# Altium integrated library Linear Technology Power Management Hot Swap Controllers.IntLib: 992 symbols (part 42 of 93)
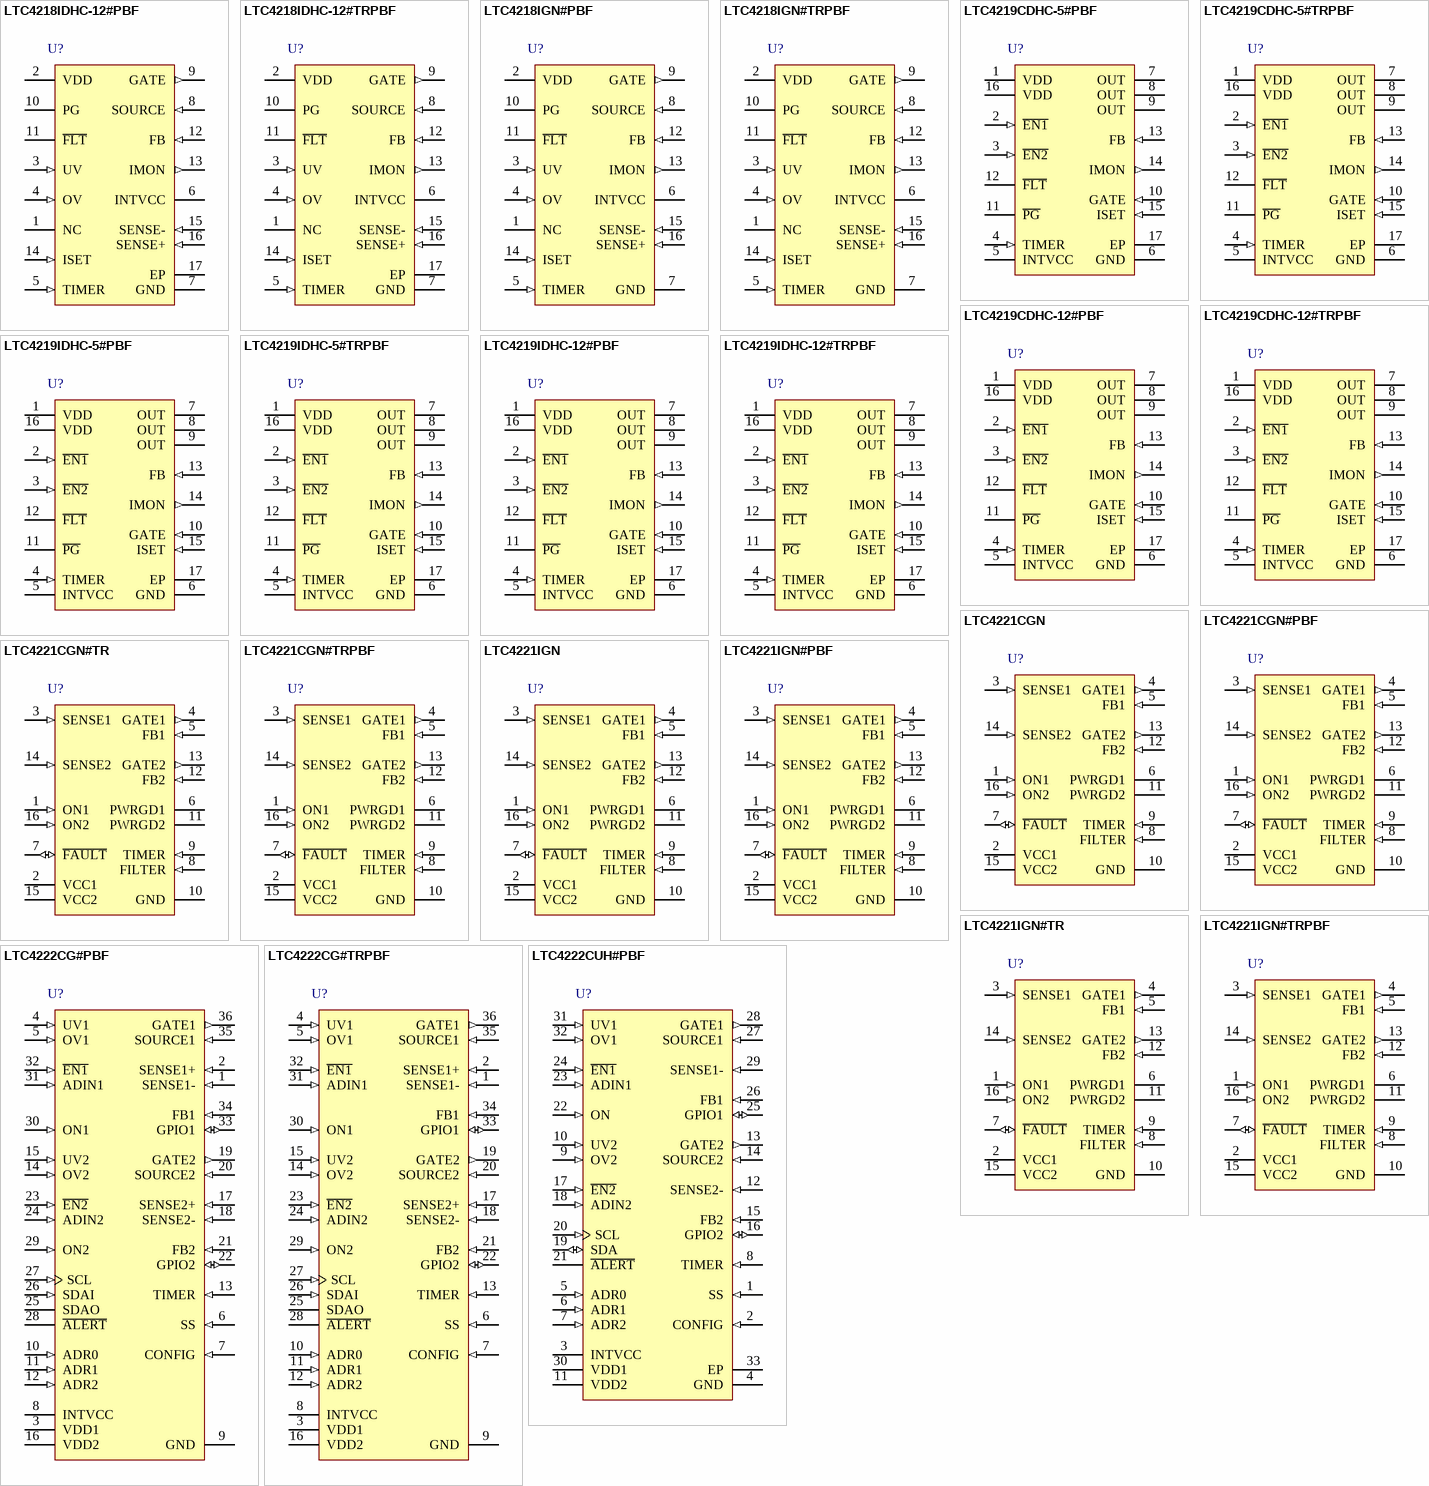
[diagram p78: symbols LTC4218IDHC-12#PBF to LTC4222CUH#PBF]

## LTC4218IDHC-12#TRPBF
designator U?
Hot Swap Controller, 2.9 to 26.5 V Vin, 16-pin SON (DHC-16), -40 to 85 degC, Pb-Free, Tape and Reel; Manufacturer: Linear Technology; PartNumber: LTC4218IDHC-12#TRPBF; Active Limiting: yes; Circuit Breaker Accuracy(%): 5; Circuit Breaker Threshold: 15 mV; Circuit Breakers(#): 1; Extended Temp: C, I; Foldback: no; DatasheetVersion: Rev. F; PackageVersion: Jun-10; PackageReference: DHC-16; PackageDescription: 16-Pin Plastic DFN, Body 5 x 3 mm, Pitch 0.5 mm; Supplier 1: Digi-Key; Supplier Part Number 1: LTC4218IDHC-12#TRPBF-ND; Fast Comparator: yes; Fault: yes; Packing: Tape and Reel; Power Good: yes; RoHS: TRUE; Vin Range: 2.9 to 26.5 V; Mounting Technology: Surface Mount; Code_JEDEC: MO-229; ComponentLink1Description: Manufacturer URL; ComponentLink1URL: http://www.linear.com/; ComponentLink2Description: Datasheet; ComponentLink2URL: http://cds.linear.com/docs/en/datasheet/4218ff.pdf; ComponentLink3Description: Package Specification; ComponentLink3URL: http://cds.linear.com/docs/en/packaging/DFN_16_05-08-1706.pdf
footprint LT-DHC-16_V (SON, 16-Leads, Body 5x3mm, Pitch 0.5mm, Thermal Pad 4.4X1.65mm)
pins: 1 NC "No Connection", 2 VDD (power) "Supply Voltage. This pin has an undervoltage lockout threshold of 2.73V.", 3 UV (in) "Undervoltage Comparator Input. Tie high if unused. Connect this pin to an external resistive divider from VDD for the LTC4218 (adjustable version). The LTC4218-12 version drives the UV pin with an internal resistive divider (See Datasheet)", 4 OV (in) "Overvoltage Comparator Input. Connect this pin to an external resistive divider from VDD for the LTC4218 (adjustable version). The LTC4218-12 version uses a fi xed internal divider with optional external adjustment for 12V (See Datasheet)", 5 TIMER (in) "Timer Input. Connect a capacitor between this pin and ground to set a 12ms/uF duration for current limit before the switch is turned off. If the UV pin is toggled low while the MOSFET switch is off, the switch will turn on (See Datasheet)", 6 INTVCC (power) "Internal 3.1V Supply Decoupling Output. This pin must have a 0.1uF or larger capacitor.", 7 GND (power) "Device Ground.", 8 SOURCE (in) "N-Channel MOSFET Source Connection. Connect this pin to the source of the external N-channel MOSFET switch. This pin provides a return for the gate pull-down circuit. In the LTC4218-12 version, the power good comparator (See Datasheet)", 9 GATE (out) "Gate Drive for External N-Channel FET. An internal 24uA current source charges the gate of the external N-channel MOSFET. A resistor and capacitor network from this pin to ground sets the turn-on rate. During an undervoltage (See Datasheet)", 10 PG (oc) "Power Good Indicator. Open drain output pulls low when the FB pin drops below 1.21V indicating the power is bad. If the FB pin rises above 1.23V and the GATE to OUT voltage exceeds 4.2V, the open-drain pull-down releases the (See Datasheet)", 11 ~{FLT} (oc) "Overcurrent Fault Indicator. Open drain output pulls low when an overcurrent fault has occurred and the circuit breaker trips. For overcurrent auto-retry tie to UV pin (see Applications Information for details).", 12 FB (in) "Foldback and Power Good Comparator Input. Connectthis pin to an external resistive divider from SOURCE for the LTC4218 (adjustable version). The LTC4218-12 version uses a fixed internal divider with optional external (See Datasheet)", 13 IMON (out) "Current Monitor Output. The current sourced from this pin is defined as the current sense voltage (between the SENSE+ and SENSE- pins) multiplied by 6.67uA/mV. Placing a 20k resistor from this pin to GND creates a 0V to 2V (See Datasheet)", 14 ISET (in) "Current Limit Adjustment Pin. For 15mV current limit threshold, open this pin. This pin is driven by a 20k resistor in series with a voltage source. The pin voltage is used to generate the current limit threshold. The (See Datasheet)", 15 SENSE- (in) "Current Sense Minus Input. Connect this pin to the opposite of VDD current sense resistor side. The current limit circuit controls the GATE pin to limit the sense voltage between the SENSE+ and SENSE- pins to 15mV or less (See Datasheet)", 16 SENSE+ (in) "Current Sense Plus Input. Connect this pin to the VDD side of the current sense resistor.", 17 EP (power) "Exposed pad may be left open or connected to device ground."

## LTC4218IGN#PBF
designator U?
Hot Swap Controller, 2.9 to 26.5 V Vin, 16-pin SOP (GN-16), -40 to 85 degC, Pb-Free; Manufacturer: Linear Technology; PartNumber: LTC4218IGN#PBF; Active Limiting: yes; Circuit Breaker Accuracy(%): 5; Circuit Breaker Threshold: 15 mV; Circuit Breakers(#): 1; Extended Temp: C, I; Foldback: no; DatasheetVersion: Rev. F; PackageVersion: Rev. B, 03/2012; PackageReference: GN-16; PackageDescription: 16-Pin Plastic SSOP, Body 4.9 x 3.9 mm, Pitch 0.635 mm; Supplier 1: Digi-Key; Supplier Part Number 1: LTC4218IGN#PBF-ND; Supplier 2: Farnell; Supplier Part Number 2: 2295338; Supplier 3: Newark; Supplier Part Number 3: 79M3605; Fast Comparator: yes; Fault: yes; Power Good: yes; RoHS: TRUE; Vin Range: 2.9 to 26.5 V; Mounting Technology: Surface Mount; ComponentLink1Description: Manufacturer URL; ComponentLink1URL: http://www.linear.com/; ComponentLink2Description: Datasheet; ComponentLink2URL: http://cds.linear.com/docs/en/datasheet/4218ff.pdf; ComponentLink3Description: Package Specification; ComponentLink3URL: http://cds.linear.com/docs/en/packaging/05081641_B_GN16.pdf
footprint LT-GN-16_N (SOP, 16-Leads, Body 5x4mm, Pitch 0.635mm, IPC Medium Density)
footprint LT-GN-16_L (SOP, 16-Leads, Body 5x4mm, Pitch 0.635mm, IPC High Density)
footprint LT-GN-16_M (SOP, 16-Leads, Body 5x4mm, Pitch 0.635mm, IPC Low Density)
pins: 1 NC "No Connection", 2 VDD (power) "Supply Voltage. This pin has an undervoltage lockout threshold of 2.73V.", 3 UV (in) "Undervoltage Comparator Input. Tie high if unused. Connect this pin to an external resistive divider from VDD for the LTC4218 (adjustable version). The LTC4218-12 version drives the UV pin with an internal resistive divider (See Datasheet)", 4 OV (in) "Overvoltage Comparator Input. Connect this pin to an external resistive divider from VDD for the LTC4218 (adjustable version). The LTC4218-12 version uses a fi xed internal divider with optional external adjustment for 12V (See Datasheet)", 5 TIMER (in) "Timer Input. Connect a capacitor between this pin and ground to set a 12ms/uF duration for current limit before the switch is turned off. If the UV pin is toggled low while the MOSFET switch is off, the switch will turn on (See Datasheet)", 6 INTVCC (power) "Internal 3.1V Supply Decoupling Output. This pin must have a 0.1uF or larger capacitor.", 7 GND (power) "Device Ground.", 8 SOURCE (in) "N-Channel MOSFET Source Connection. Connect this pin to the source of the external N-channel MOSFET switch. This pin provides a return for the gate pull-down circuit. In the LTC4218-12 version, the power good comparator (See Datasheet)", 9 GATE (out) "Gate Drive for External N-Channel FET. An internal 24uA current source charges the gate of the external N-channel MOSFET. A resistor and capacitor network from this pin to ground sets the turn-on rate. During an undervoltage (See Datasheet)", 10 PG (oc) "Power Good Indicator. Open drain output pulls low when the FB pin drops below 1.21V indicating the power is bad. If the FB pin rises above 1.23V and the GATE to OUT voltage exceeds 4.2V, the open-drain pull-down releases the (See Datasheet)", 11 ~{FLT} (oc) "Overcurrent Fault Indicator. Open drain output pulls low when an overcurrent fault has occurred and the circuit breaker trips. For overcurrent auto-retry tie to UV pin (see Applications Information for details).", 12 FB (in) "Foldback and Power Good Comparator Input. Connectthis pin to an external resistive divider from SOURCE for the LTC4218 (adjustable version). The LTC4218-12 version uses a fixed internal divider with optional external (See Datasheet)", 13 IMON (out) "Current Monitor Output. The current sourced from this pin is defined as the current sense voltage (between the SENSE+ and SENSE- pins) multiplied by 6.67uA/mV. Placing a 20k resistor from this pin to GND creates a 0V to 2V (See Datasheet)", 14 ISET (in) "Current Limit Adjustment Pin. For 15mV current limit threshold, open this pin. This pin is driven by a 20k resistor in series with a voltage source. The pin voltage is used to generate the current limit threshold. The (See Datasheet)", 15 SENSE- (in) "Current Sense Minus Input. Connect this pin to the opposite of VDD current sense resistor side. The current limit circuit controls the GATE pin to limit the sense voltage between the SENSE+ and SENSE- pins to 15mV or less (See Datasheet)", 16 SENSE+ (in) "Current Sense Plus Input. Connect this pin to the VDD side of the current sense resistor."

## LTC4218IGN#TRPBF
designator U?
Hot Swap Controller, 2.9 to 26.5 V Vin, 16-pin SOP (GN-16), -40 to 85 degC, Pb-Free, Tape and Reel; Manufacturer: Linear Technology; PartNumber: LTC4218IGN#TRPBF; Active Limiting: yes; Circuit Breaker Accuracy(%): 5; Circuit Breaker Threshold: 15 mV; Circuit Breakers(#): 1; Extended Temp: C, I; Foldback: no; DatasheetVersion: Rev. F; PackageVersion: Rev. B, 03/2012; PackageReference: GN-16; PackageDescription: 16-Pin Plastic SSOP, Body 4.9 x 3.9 mm, Pitch 0.635 mm; Supplier 1: Digi-Key; Supplier Part Number 1: LTC4218IGN#TRPBF-ND; Fast Comparator: yes; Fault: yes; Packing: Tape and Reel; Power Good: yes; RoHS: TRUE; Vin Range: 2.9 to 26.5 V; Mounting Technology: Surface Mount; ComponentLink1Description: Manufacturer URL; ComponentLink1URL: http://www.linear.com/; ComponentLink2Description: Datasheet; ComponentLink2URL: http://cds.linear.com/docs/en/datasheet/4218ff.pdf; ComponentLink3Description: Package Specification; ComponentLink3URL: http://cds.linear.com/docs/en/packaging/05081641_B_GN16.pdf
footprint LT-GN-16_N (SOP, 16-Leads, Body 5x4mm, Pitch 0.635mm, IPC Medium Density)
footprint LT-GN-16_L (SOP, 16-Leads, Body 5x4mm, Pitch 0.635mm, IPC High Density)
footprint LT-GN-16_M (SOP, 16-Leads, Body 5x4mm, Pitch 0.635mm, IPC Low Density)
pins: 1 NC "No Connection", 2 VDD (power) "Supply Voltage. This pin has an undervoltage lockout threshold of 2.73V.", 3 UV (in) "Undervoltage Comparator Input. Tie high if unused. Connect this pin to an external resistive divider from VDD for the LTC4218 (adjustable version). The LTC4218-12 version drives the UV pin with an internal resistive divider (See Datasheet)", 4 OV (in) "Overvoltage Comparator Input. Connect this pin to an external resistive divider from VDD for the LTC4218 (adjustable version). The LTC4218-12 version uses a fi xed internal divider with optional external adjustment for 12V (See Datasheet)", 5 TIMER (in) "Timer Input. Connect a capacitor between this pin and ground to set a 12ms/uF duration for current limit before the switch is turned off. If the UV pin is toggled low while the MOSFET switch is off, the switch will turn on (See Datasheet)", 6 INTVCC (power) "Internal 3.1V Supply Decoupling Output. This pin must have a 0.1uF or larger capacitor.", 7 GND (power) "Device Ground.", 8 SOURCE (in) "N-Channel MOSFET Source Connection. Connect this pin to the source of the external N-channel MOSFET switch. This pin provides a return for the gate pull-down circuit. In the LTC4218-12 version, the power good comparator (See Datasheet)", 9 GATE (out) "Gate Drive for External N-Channel FET. An internal 24uA current source charges the gate of the external N-channel MOSFET. A resistor and capacitor network from this pin to ground sets the turn-on rate. During an undervoltage (See Datasheet)", 10 PG (oc) "Power Good Indicator. Open drain output pulls low when the FB pin drops below 1.21V indicating the power is bad. If the FB pin rises above 1.23V and the GATE to OUT voltage exceeds 4.2V, the open-drain pull-down releases the (See Datasheet)", 11 ~{FLT} (oc) "Overcurrent Fault Indicator. Open drain output pulls low when an overcurrent fault has occurred and the circuit breaker trips. For overcurrent auto-retry tie to UV pin (see Applications Information for details).", 12 FB (in) "Foldback and Power Good Comparator Input. Connectthis pin to an external resistive divider from SOURCE for the LTC4218 (adjustable version). The LTC4218-12 version uses a fixed internal divider with optional external (See Datasheet)", 13 IMON (out) "Current Monitor Output. The current sourced from this pin is defined as the current sense voltage (between the SENSE+ and SENSE- pins) multiplied by 6.67uA/mV. Placing a 20k resistor from this pin to GND creates a 0V to 2V (See Datasheet)", 14 ISET (in) "Current Limit Adjustment Pin. For 15mV current limit threshold, open this pin. This pin is driven by a 20k resistor in series with a voltage source. The pin voltage is used to generate the current limit threshold. The (See Datasheet)", 15 SENSE- (in) "Current Sense Minus Input. Connect this pin to the opposite of VDD current sense resistor side. The current limit circuit controls the GATE pin to limit the sense voltage between the SENSE+ and SENSE- pins to 15mV or less (See Datasheet)", 16 SENSE+ (in) "Current Sense Plus Input. Connect this pin to the VDD side of the current sense resistor."

## LTC4219CDHC-5#PBF
designator U?
5 A Integrated Hot Swap Controller, 2.9 to 15 V Vin, 16-pin SON (DHC-16), 0 to 70 degC, Pb-Free; Manufacturer: Linear Technology; PartNumber: LTC4219CDHC-5#PBF; Active Limiting: yes; Circuit Breaker Accuracy(%): 10; Circuit Breaker Threshold: 5.6 A; Circuit Breakers(#): 1; Extended Temp: C, I; Fast Comparator: no; DatasheetVersion: Rev. B; PackageVersion: Jun-10; PackageReference: DHC-16; PackageDescription: 16-Pin Plastic DFN, Body 5 x 3 mm, Pitch 0.5 mm; Supplier 1: Digi-Key; Supplier Part Number 1: LTC4219CDHC-5#PBF-ND; Supplier 2: Newark; Supplier Part Number 2: 84R4986; Fault: yes; Foldback: yes; Power Good: yes; Reset: no; RoHS: TRUE; Vin Range: 2.9 to 15 V; Mounting Technology: Surface Mount; Code_JEDEC: MO-229; ComponentLink1Description: Manufacturer URL; ComponentLink1URL: http://www.linear.com/; ComponentLink2Description: Datasheet; ComponentLink2URL: http://cds.linear.com/docs/en/datasheet/4219fb.pdf; ComponentLink3Description: Package Specification; ComponentLink3URL: http://cds.linear.com/docs/en/packaging/DFN_16_05-08-1706.pdf
footprint LT-DHC-16_V (SON, 16-Leads, Body 5x3mm, Pitch 0.5mm, Thermal Pad 4.4X1.65mm)
pins: 1 VDD (power) "Supply Voltage and Current Sense Input. This pin has an undervoltage lockout threshold of 2.73V", 2 ~{EN1} (in) "Inverted Enable 1 Input. Ground this pin to enable the MOSFET to turn on after 100ms debounce delay.", 3 ~{EN2} (in) "Inverted Enable 2 Input. Ground this pin to enable the MOSFET to turn on after 100ms debounce delay.", 4 TIMER (in) "Timer Input. Connect a capacitor between this pin and ground to set a 12ms/uF duration for current limit before the switch is turned off.", 5 INTVCC (power) "Internal 3V Supply Decoupling Output. This pin must have a 0.1uF or larger bypass capacitor.", 6 GND (power) "Device Ground.", 7 OUT (power) "Output of Internal MOSFET Switch. Connect this pin directly to the load. An internal resistive divider is connected to this pin to drive the FB pin.", 8 OUT (power) "Output of Internal MOSFET Switch. Connect this pin directly to the load. An internal resistive divider is connected to this pin to drive the FB pin.", 9 OUT (power) "Output of Internal MOSFET Switch. Connect this pin directly to the load. An internal resistive divider is connected to this pin to drive the FB pin.", 10 GATE (in) "Gate Drive for Internal N-channel MOSFET. An internal 24uA current source charges the gate of the N-channel MOSFET", 11 ~{PG} (oc) "Power Good Indicator. Open-drain output releases the PG pin to go high when the FB pin drops below 1.21V indicating the power is bad. If the FB pin rises above 1.23V and the GATE to OUT voltage exceeds 4.2V, the open-drain (See Datasheet)", 12 ~{FLT} (oc) "Overcurrent Fault Indicator. Open-drain output pulls low when an overcurrent fault has occurred and the circuit breaker trips.", 13 FB (in) "Foldback and Power Good Input. The FB pin is driven from an internal resistive divider from OUT for both the LTC4219-12 and LTC4219-5. These versions preset 12V and 5V foldback and power good levels. If the OUT voltage falls (See Datasheet)", 14 IMON (out) "Current Monitor Output. The current in the internal MOSFET switch is divided by 50,000 and sourced from this pin. Placing a 20k resistor from this pin to GND creates a 0V to 2V voltage swing when current ranges from 0A to 5A.", 15 ISET (in) "Current Limit Adjustment Pin. For a 5.6A current limit value open this pin. This pin is driven by a 20k resistor in series with a voltage source. The pin voltage is used to generate the current limit threshold. The internal (See Datasheet)", 16 VDD (power) "Supply Voltage and Current Sense Input. This pin has an undervoltage lockout threshold of 2.73V", 17 EP "Current Sense Node and MOSFET Drain. The current limit circuit controls the GATE pin to limit the sense voltage between the VDD and SENSE pins to 42mV (5.6A) or less depending on the voltage at the FB pin. The exposed pad on (See Datasheet)"

## LTC4219CDHC-5#TRPBF
designator U?
5 A Integrated Hot Swap Controller, 2.9 to 15 V Vin, 16-pin SON (DHC-16), 0 to 70 degC, Pb-Free, Tape and Reel; Manufacturer: Linear Technology; PartNumber: LTC4219CDHC-5#TRPBF; Active Limiting: yes; Circuit Breaker Accuracy(%): 10; Circuit Breaker Threshold: 5.6 A; Circuit Breakers(#): 1; Extended Temp: C, I; Fast Comparator: no; DatasheetVersion: Rev. B; PackageVersion: Jun-10; PackageReference: DHC-16; PackageDescription: 16-Pin Plastic DFN, Body 5 x 3 mm, Pitch 0.5 mm; Supplier 1: Digi-Key; Supplier Part Number 1: LTC4219CDHC-5#TRPBF-ND; Fault: yes; Foldback: yes; Packing: Tape and Reel; Power Good: yes; Reset: no; RoHS: TRUE; Vin Range: 2.9 to 15 V; Mounting Technology: Surface Mount; Code_JEDEC: MO-229; ComponentLink1Description: Manufacturer URL; ComponentLink1URL: http://www.linear.com/; ComponentLink2Description: Datasheet; ComponentLink2URL: http://cds.linear.com/docs/en/datasheet/4219fb.pdf; ComponentLink3Description: Package Specification; ComponentLink3URL: http://cds.linear.com/docs/en/packaging/DFN_16_05-08-1706.pdf
footprint LT-DHC-16_V (SON, 16-Leads, Body 5x3mm, Pitch 0.5mm, Thermal Pad 4.4X1.65mm)
pins: 1 VDD (power) "Supply Voltage and Current Sense Input. This pin has an undervoltage lockout threshold of 2.73V", 2 ~{EN1} (in) "Inverted Enable 1 Input. Ground this pin to enable the MOSFET to turn on after 100ms debounce delay.", 3 ~{EN2} (in) "Inverted Enable 2 Input. Ground this pin to enable the MOSFET to turn on after 100ms debounce delay.", 4 TIMER (in) "Timer Input. Connect a capacitor between this pin and ground to set a 12ms/uF duration for current limit before the switch is turned off.", 5 INTVCC (power) "Internal 3V Supply Decoupling Output. This pin must have a 0.1uF or larger bypass capacitor.", 6 GND (power) "Device Ground.", 7 OUT (power) "Output of Internal MOSFET Switch. Connect this pin directly to the load. An internal resistive divider is connected to this pin to drive the FB pin.", 8 OUT (power) "Output of Internal MOSFET Switch. Connect this pin directly to the load. An internal resistive divider is connected to this pin to drive the FB pin.", 9 OUT (power) "Output of Internal MOSFET Switch. Connect this pin directly to the load. An internal resistive divider is connected to this pin to drive the FB pin.", 10 GATE (in) "Gate Drive for Internal N-channel MOSFET. An internal 24uA current source charges the gate of the N-channel MOSFET", 11 ~{PG} (oc) "Power Good Indicator. Open-drain output releases the PG pin to go high when the FB pin drops below 1.21V indicating the power is bad. If the FB pin rises above 1.23V and the GATE to OUT voltage exceeds 4.2V, the open-drain (See Datasheet)", 12 ~{FLT} (oc) "Overcurrent Fault Indicator. Open-drain output pulls low when an overcurrent fault has occurred and the circuit breaker trips.", 13 FB (in) "Foldback and Power Good Input. The FB pin is driven from an internal resistive divider from OUT for both the LTC4219-12 and LTC4219-5. These versions preset 12V and 5V foldback and power good levels. If the OUT voltage falls (See Datasheet)", 14 IMON (out) "Current Monitor Output. The current in the internal MOSFET switch is divided by 50,000 and sourced from this pin. Placing a 20k resistor from this pin to GND creates a 0V to 2V voltage swing when current ranges from 0A to 5A.", 15 ISET (in) "Current Limit Adjustment Pin. For a 5.6A current limit value open this pin. This pin is driven by a 20k resistor in series with a voltage source. The pin voltage is used to generate the current limit threshold. The internal (See Datasheet)", 16 VDD (power) "Supply Voltage and Current Sense Input. This pin has an undervoltage lockout threshold of 2.73V", 17 EP "Current Sense Node and MOSFET Drain. The current limit circuit controls the GATE pin to limit the sense voltage between the VDD and SENSE pins to 42mV (5.6A) or less depending on the voltage at the FB pin. The exposed pad on (See Datasheet)"

## LTC4219CDHC-12#PBF
designator U?
5 A Integrated Hot Swap Controller, 2.9 to 15 V Vin, 16-pin SON (DHC-16), 0 to 70 degC, Pb-Free; Manufacturer: Linear Technology; PartNumber: LTC4219CDHC-12#PBF; Active Limiting: yes; Circuit Breaker Accuracy(%): 10; Circuit Breaker Threshold: 5.6 A; Circuit Breakers(#): 1; Extended Temp: C, I; Fast Comparator: no; DatasheetVersion: Rev. B; PackageVersion: Jun-10; PackageReference: DHC-16; PackageDescription: 16-Pin Plastic DFN, Body 5 x 3 mm, Pitch 0.5 mm; Supplier 1: Digi-Key; Supplier Part Number 1: LTC4219CDHC-12#PBF-ND; Supplier 2: Farnell; Supplier Part Number 2: 2295339; Supplier 3: Newark; Supplier Part Number 3: 84R4984; Fault: yes; Foldback: yes; Power Good: yes; Reset: no; RoHS: TRUE; Vin Range: 2.9 to 15 V; Mounting Technology: Surface Mount; Code_JEDEC: MO-229; ComponentLink1Description: Manufacturer URL; ComponentLink1URL: http://www.linear.com/; ComponentLink2Description: Datasheet; ComponentLink2URL: http://cds.linear.com/docs/en/datasheet/4219fb.pdf; ComponentLink3Description: Package Specification; ComponentLink3URL: http://cds.linear.com/docs/en/packaging/DFN_16_05-08-1706.pdf
footprint LT-DHC-16_V (SON, 16-Leads, Body 5x3mm, Pitch 0.5mm, Thermal Pad 4.4X1.65mm)
pins: 1 VDD (power) "Supply Voltage and Current Sense Input. This pin has an undervoltage lockout threshold of 2.73V", 2 ~{EN1} (in) "Inverted Enable 1 Input. Ground this pin to enable the MOSFET to turn on after 100ms debounce delay.", 3 ~{EN2} (in) "Inverted Enable 2 Input. Ground this pin to enable the MOSFET to turn on after 100ms debounce delay.", 4 TIMER (in) "Timer Input. Connect a capacitor between this pin and ground to set a 12ms/uF duration for current limit before the switch is turned off.", 5 INTVCC (power) "Internal 3V Supply Decoupling Output. This pin must have a 0.1uF or larger bypass capacitor.", 6 GND (power) "Device Ground.", 7 OUT (power) "Output of Internal MOSFET Switch. Connect this pin directly to the load. An internal resistive divider is connected to this pin to drive the FB pin.", 8 OUT (power) "Output of Internal MOSFET Switch. Connect this pin directly to the load. An internal resistive divider is connected to this pin to drive the FB pin.", 9 OUT (power) "Output of Internal MOSFET Switch. Connect this pin directly to the load. An internal resistive divider is connected to this pin to drive the FB pin.", 10 GATE (in) "Gate Drive for Internal N-channel MOSFET. An internal 24uA current source charges the gate of the N-channel MOSFET", 11 ~{PG} (oc) "Power Good Indicator. Open-drain output releases the PG pin to go high when the FB pin drops below 1.21V indicating the power is bad. If the FB pin rises above 1.23V and the GATE to OUT voltage exceeds 4.2V, the open-drain (See Datasheet)", 12 ~{FLT} (oc) "Overcurrent Fault Indicator. Open-drain output pulls low when an overcurrent fault has occurred and the circuit breaker trips.", 13 FB (in) "Foldback and Power Good Input. The FB pin is driven from an internal resistive divider from OUT for both the LTC4219-12 and LTC4219-5. These versions preset 12V and 5V foldback and power good levels. If the OUT voltage falls (See Datasheet)", 14 IMON (out) "Current Monitor Output. The current in the internal MOSFET switch is divided by 50,000 and sourced from this pin. Placing a 20k resistor from this pin to GND creates a 0V to 2V voltage swing when current ranges from 0A to 5A.", 15 ISET (in) "Current Limit Adjustment Pin. For a 5.6A current limit value open this pin. This pin is driven by a 20k resistor in series with a voltage source. The pin voltage is used to generate the current limit threshold. The internal (See Datasheet)", 16 VDD (power) "Supply Voltage and Current Sense Input. This pin has an undervoltage lockout threshold of 2.73V", 17 EP "Current Sense Node and MOSFET Drain. The current limit circuit controls the GATE pin to limit the sense voltage between the VDD and SENSE pins to 42mV (5.6A) or less depending on the voltage at the FB pin. The exposed pad on (See Datasheet)"

## LTC4219CDHC-12#TRPBF
designator U?
5 A Integrated Hot Swap Controller, 2.9 to 15 V Vin, 16-pin SON (DHC-16), 0 to 70 degC, Pb-Free, Tape and Reel; Manufacturer: Linear Technology; PartNumber: LTC4219CDHC-12#TRPBF; Active Limiting: yes; Circuit Breaker Accuracy(%): 10; Circuit Breaker Threshold: 5.6 A; Circuit Breakers(#): 1; Extended Temp: C, I; Fast Comparator: no; DatasheetVersion: Rev. B; PackageVersion: Jun-10; PackageReference: DHC-16; PackageDescription: 16-Pin Plastic DFN, Body 5 x 3 mm, Pitch 0.5 mm; Supplier 1: Digi-Key; Supplier Part Number 1: LTC4219CDHC-12#TRPBF-ND; Supplier 2: Newark; Supplier Part Number 2: 84R4985; Fault: yes; Foldback: yes; Packing: Tape and Reel; Power Good: yes; Reset: no; RoHS: TRUE; Vin Range: 2.9 to 15 V; Mounting Technology: Surface Mount; Code_JEDEC: MO-229; ComponentLink1Description: Manufacturer URL; ComponentLink1URL: http://www.linear.com/; ComponentLink2Description: Datasheet; ComponentLink2URL: http://cds.linear.com/docs/en/datasheet/4219fb.pdf; ComponentLink3Description: Package Specification; ComponentLink3URL: http://cds.linear.com/docs/en/packaging/DFN_16_05-08-1706.pdf
footprint LT-DHC-16_V (SON, 16-Leads, Body 5x3mm, Pitch 0.5mm, Thermal Pad 4.4X1.65mm)
pins: 1 VDD (power) "Supply Voltage and Current Sense Input. This pin has an undervoltage lockout threshold of 2.73V", 2 ~{EN1} (in) "Inverted Enable 1 Input. Ground this pin to enable the MOSFET to turn on after 100ms debounce delay.", 3 ~{EN2} (in) "Inverted Enable 2 Input. Ground this pin to enable the MOSFET to turn on after 100ms debounce delay.", 4 TIMER (in) "Timer Input. Connect a capacitor between this pin and ground to set a 12ms/uF duration for current limit before the switch is turned off.", 5 INTVCC (power) "Internal 3V Supply Decoupling Output. This pin must have a 0.1uF or larger bypass capacitor.", 6 GND (power) "Device Ground.", 7 OUT (power) "Output of Internal MOSFET Switch. Connect this pin directly to the load. An internal resistive divider is connected to this pin to drive the FB pin.", 8 OUT (power) "Output of Internal MOSFET Switch. Connect this pin directly to the load. An internal resistive divider is connected to this pin to drive the FB pin.", 9 OUT (power) "Output of Internal MOSFET Switch. Connect this pin directly to the load. An internal resistive divider is connected to this pin to drive the FB pin.", 10 GATE (in) "Gate Drive for Internal N-channel MOSFET. An internal 24uA current source charges the gate of the N-channel MOSFET", 11 ~{PG} (oc) "Power Good Indicator. Open-drain output releases the PG pin to go high when the FB pin drops below 1.21V indicating the power is bad. If the FB pin rises above 1.23V and the GATE to OUT voltage exceeds 4.2V, the open-drain (See Datasheet)", 12 ~{FLT} (oc) "Overcurrent Fault Indicator. Open-drain output pulls low when an overcurrent fault has occurred and the circuit breaker trips.", 13 FB (in) "Foldback and Power Good Input. The FB pin is driven from an internal resistive divider from OUT for both the LTC4219-12 and LTC4219-5. These versions preset 12V and 5V foldback and power good levels. If the OUT voltage falls (See Datasheet)", 14 IMON (out) "Current Monitor Output. The current in the internal MOSFET switch is divided by 50,000 and sourced from this pin. Placing a 20k resistor from this pin to GND creates a 0V to 2V voltage swing when current ranges from 0A to 5A.", 15 ISET (in) "Current Limit Adjustment Pin. For a 5.6A current limit value open this pin. This pin is driven by a 20k resistor in series with a voltage source. The pin voltage is used to generate the current limit threshold. The internal (See Datasheet)", 16 VDD (power) "Supply Voltage and Current Sense Input. This pin has an undervoltage lockout threshold of 2.73V", 17 EP "Current Sense Node and MOSFET Drain. The current limit circuit controls the GATE pin to limit the sense voltage between the VDD and SENSE pins to 42mV (5.6A) or less depending on the voltage at the FB pin. The exposed pad on (See Datasheet)"

## LTC4219IDHC-5#PBF
designator U?
5 A Integrated Hot Swap Controller, 2.9 to 15 V Vin, 16-pin SON (DHC-16), -40 to 85 degC, Pb-Free; Manufacturer: Linear Technology; PartNumber: LTC4219IDHC-5#PBF; Active Limiting: yes; Circuit Breaker Accuracy(%): 10; Circuit Breaker Threshold: 5.6 A; Circuit Breakers(#): 1; Extended Temp: C, I; Fast Comparator: no; DatasheetVersion: Rev. B; PackageVersion: Jun-10; PackageReference: DHC-16; PackageDescription: 16-Pin Plastic DFN, Body 5 x 3 mm, Pitch 0.5 mm; Supplier 1: Digi-Key; Supplier Part Number 1: LTC4219IDHC-5#PBF-ND; Supplier 2: Farnell; Supplier Part Number 2: 2097895; Supplier 3: Newark; Supplier Part Number 3: 84R4990; Fault: yes; Foldback: yes; Power Good: yes; Reset: no; RoHS: TRUE; Vin Range: 2.9 to 15 V; Mounting Technology: Surface Mount; Code_JEDEC: MO-229; ComponentLink1Description: Manufacturer URL; ComponentLink1URL: http://www.linear.com/; ComponentLink2Description: Datasheet; ComponentLink2URL: http://cds.linear.com/docs/en/datasheet/4219fb.pdf; ComponentLink3Description: Package Specification; ComponentLink3URL: http://cds.linear.com/docs/en/packaging/DFN_16_05-08-1706.pdf
footprint LT-DHC-16_V (SON, 16-Leads, Body 5x3mm, Pitch 0.5mm, Thermal Pad 4.4X1.65mm)
pins: 1 VDD (power) "Supply Voltage and Current Sense Input. This pin has an undervoltage lockout threshold of 2.73V", 2 ~{EN1} (in) "Inverted Enable 1 Input. Ground this pin to enable the MOSFET to turn on after 100ms debounce delay.", 3 ~{EN2} (in) "Inverted Enable 2 Input. Ground this pin to enable the MOSFET to turn on after 100ms debounce delay.", 4 TIMER (in) "Timer Input. Connect a capacitor between this pin and ground to set a 12ms/uF duration for current limit before the switch is turned off.", 5 INTVCC (power) "Internal 3V Supply Decoupling Output. This pin must have a 0.1uF or larger bypass capacitor.", 6 GND (power) "Device Ground.", 7 OUT (power) "Output of Internal MOSFET Switch. Connect this pin directly to the load. An internal resistive divider is connected to this pin to drive the FB pin.", 8 OUT (power) "Output of Internal MOSFET Switch. Connect this pin directly to the load. An internal resistive divider is connected to this pin to drive the FB pin.", 9 OUT (power) "Output of Internal MOSFET Switch. Connect this pin directly to the load. An internal resistive divider is connected to this pin to drive the FB pin.", 10 GATE (in) "Gate Drive for Internal N-channel MOSFET. An internal 24uA current source charges the gate of the N-channel MOSFET", 11 ~{PG} (oc) "Power Good Indicator. Open-drain output releases the PG pin to go high when the FB pin drops below 1.21V indicating the power is bad. If the FB pin rises above 1.23V and the GATE to OUT voltage exceeds 4.2V, the open-drain (See Datasheet)", 12 ~{FLT} (oc) "Overcurrent Fault Indicator. Open-drain output pulls low when an overcurrent fault has occurred and the circuit breaker trips.", 13 FB (in) "Foldback and Power Good Input. The FB pin is driven from an internal resistive divider from OUT for both the LTC4219-12 and LTC4219-5. These versions preset 12V and 5V foldback and power good levels. If the OUT voltage falls (See Datasheet)", 14 IMON (out) "Current Monitor Output. The current in the internal MOSFET switch is divided by 50,000 and sourced from this pin. Placing a 20k resistor from this pin to GND creates a 0V to 2V voltage swing when current ranges from 0A to 5A.", 15 ISET (in) "Current Limit Adjustment Pin. For a 5.6A current limit value open this pin. This pin is driven by a 20k resistor in series with a voltage source. The pin voltage is used to generate the current limit threshold. The internal (See Datasheet)", 16 VDD (power) "Supply Voltage and Current Sense Input. This pin has an undervoltage lockout threshold of 2.73V", 17 EP "Current Sense Node and MOSFET Drain. The current limit circuit controls the GATE pin to limit the sense voltage between the VDD and SENSE pins to 42mV (5.6A) or less depending on the voltage at the FB pin. The exposed pad on (See Datasheet)"

## LTC4219IDHC-5#TRPBF
designator U?
5 A Integrated Hot Swap Controller, 2.9 to 15 V Vin, 16-pin SON (DHC-16), -40 to 85 degC, Pb-Free, Tape and Reel; Manufacturer: Linear Technology; PartNumber: LTC4219IDHC-5#TRPBF; Active Limiting: yes; Circuit Breaker Accuracy(%): 10; Circuit Breaker Threshold: 5.6 A; Circuit Breakers(#): 1; Extended Temp: C, I; Fast Comparator: no; DatasheetVersion: Rev. B; PackageVersion: Jun-10; PackageReference: DHC-16; PackageDescription: 16-Pin Plastic DFN, Body 5 x 3 mm, Pitch 0.5 mm; Supplier 1: Digi-Key; Supplier Part Number 1: LTC4219IDHC-5#TRPBF-ND; Fault: yes; Foldback: yes; Packing: Tape and Reel; Power Good: yes; Reset: no; RoHS: TRUE; Vin Range: 2.9 to 15 V; Mounting Technology: Surface Mount; Code_JEDEC: MO-229; ComponentLink1Description: Manufacturer URL; ComponentLink1URL: http://www.linear.com/; ComponentLink2Description: Datasheet; ComponentLink2URL: http://cds.linear.com/docs/en/datasheet/4219fb.pdf; ComponentLink3Description: Package Specification; ComponentLink3URL: http://cds.linear.com/docs/en/packaging/DFN_16_05-08-1706.pdf
footprint LT-DHC-16_V (SON, 16-Leads, Body 5x3mm, Pitch 0.5mm, Thermal Pad 4.4X1.65mm)
pins: 1 VDD (power) "Supply Voltage and Current Sense Input. This pin has an undervoltage lockout threshold of 2.73V", 2 ~{EN1} (in) "Inverted Enable 1 Input. Ground this pin to enable the MOSFET to turn on after 100ms debounce delay.", 3 ~{EN2} (in) "Inverted Enable 2 Input. Ground this pin to enable the MOSFET to turn on after 100ms debounce delay.", 4 TIMER (in) "Timer Input. Connect a capacitor between this pin and ground to set a 12ms/uF duration for current limit before the switch is turned off.", 5 INTVCC (power) "Internal 3V Supply Decoupling Output. This pin must have a 0.1uF or larger bypass capacitor.", 6 GND (power) "Device Ground.", 7 OUT (power) "Output of Internal MOSFET Switch. Connect this pin directly to the load. An internal resistive divider is connected to this pin to drive the FB pin.", 8 OUT (power) "Output of Internal MOSFET Switch. Connect this pin directly to the load. An internal resistive divider is connected to this pin to drive the FB pin.", 9 OUT (power) "Output of Internal MOSFET Switch. Connect this pin directly to the load. An internal resistive divider is connected to this pin to drive the FB pin.", 10 GATE (in) "Gate Drive for Internal N-channel MOSFET. An internal 24uA current source charges the gate of the N-channel MOSFET", 11 ~{PG} (oc) "Power Good Indicator. Open-drain output releases the PG pin to go high when the FB pin drops below 1.21V indicating the power is bad. If the FB pin rises above 1.23V and the GATE to OUT voltage exceeds 4.2V, the open-drain (See Datasheet)", 12 ~{FLT} (oc) "Overcurrent Fault Indicator. Open-drain output pulls low when an overcurrent fault has occurred and the circuit breaker trips.", 13 FB (in) "Foldback and Power Good Input. The FB pin is driven from an internal resistive divider from OUT for both the LTC4219-12 and LTC4219-5. These versions preset 12V and 5V foldback and power good levels. If the OUT voltage falls (See Datasheet)", 14 IMON (out) "Current Monitor Output. The current in the internal MOSFET switch is divided by 50,000 and sourced from this pin. Placing a 20k resistor from this pin to GND creates a 0V to 2V voltage swing when current ranges from 0A to 5A.", 15 ISET (in) "Current Limit Adjustment Pin. For a 5.6A current limit value open this pin. This pin is driven by a 20k resistor in series with a voltage source. The pin voltage is used to generate the current limit threshold. The internal (See Datasheet)", 16 VDD (power) "Supply Voltage and Current Sense Input. This pin has an undervoltage lockout threshold of 2.73V", 17 EP "Current Sense Node and MOSFET Drain. The current limit circuit controls the GATE pin to limit the sense voltage between the VDD and SENSE pins to 42mV (5.6A) or less depending on the voltage at the FB pin. The exposed pad on (See Datasheet)"

## LTC4219IDHC-12#PBF
designator U?
5 A Integrated Hot Swap Controller, 2.9 to 15 V Vin, 16-pin SON (DHC-16), -40 to 85 degC, Pb-Free; Manufacturer: Linear Technology; PartNumber: LTC4219IDHC-12#PBF; Active Limiting: yes; Circuit Breaker Accuracy(%): 10; Circuit Breaker Threshold: 5.6 A; Circuit Breakers(#): 1; Extended Temp: C, I; Fast Comparator: no; DatasheetVersion: Rev. B; PackageVersion: Jun-10; PackageReference: DHC-16; PackageDescription: 16-Pin Plastic DFN, Body 5 x 3 mm, Pitch 0.5 mm; Supplier 1: Digi-Key; Supplier Part Number 1: LTC4219IDHC-12#PBF-ND; Supplier 2: Farnell; Supplier Part Number 2: 2097892; Supplier 3: Newark; Supplier Part Number 3: 84R4988; Fault: yes; Foldback: yes; Power Good: yes; Reset: no; RoHS: TRUE; Vin Range: 2.9 to 15 V; Mounting Technology: Surface Mount; Code_JEDEC: MO-229; ComponentLink1Description: Manufacturer URL; ComponentLink1URL: http://www.linear.com/; ComponentLink2Description: Datasheet; ComponentLink2URL: http://cds.linear.com/docs/en/datasheet/4219fb.pdf; ComponentLink3Description: Package Specification; ComponentLink3URL: http://cds.linear.com/docs/en/packaging/DFN_16_05-08-1706.pdf
footprint LT-DHC-16_V (SON, 16-Leads, Body 5x3mm, Pitch 0.5mm, Thermal Pad 4.4X1.65mm)
pins: 1 VDD (power) "Supply Voltage and Current Sense Input. This pin has an undervoltage lockout threshold of 2.73V", 2 ~{EN1} (in) "Inverted Enable 1 Input. Ground this pin to enable the MOSFET to turn on after 100ms debounce delay.", 3 ~{EN2} (in) "Inverted Enable 2 Input. Ground this pin to enable the MOSFET to turn on after 100ms debounce delay.", 4 TIMER (in) "Timer Input. Connect a capacitor between this pin and ground to set a 12ms/uF duration for current limit before the switch is turned off.", 5 INTVCC (power) "Internal 3V Supply Decoupling Output. This pin must have a 0.1uF or larger bypass capacitor.", 6 GND (power) "Device Ground.", 7 OUT (power) "Output of Internal MOSFET Switch. Connect this pin directly to the load. An internal resistive divider is connected to this pin to drive the FB pin.", 8 OUT (power) "Output of Internal MOSFET Switch. Connect this pin directly to the load. An internal resistive divider is connected to this pin to drive the FB pin.", 9 OUT (power) "Output of Internal MOSFET Switch. Connect this pin directly to the load. An internal resistive divider is connected to this pin to drive the FB pin.", 10 GATE (in) "Gate Drive for Internal N-channel MOSFET. An internal 24uA current source charges the gate of the N-channel MOSFET", 11 ~{PG} (oc) "Power Good Indicator. Open-drain output releases the PG pin to go high when the FB pin drops below 1.21V indicating the power is bad. If the FB pin rises above 1.23V and the GATE to OUT voltage exceeds 4.2V, the open-drain (See Datasheet)", 12 ~{FLT} (oc) "Overcurrent Fault Indicator. Open-drain output pulls low when an overcurrent fault has occurred and the circuit breaker trips.", 13 FB (in) "Foldback and Power Good Input. The FB pin is driven from an internal resistive divider from OUT for both the LTC4219-12 and LTC4219-5. These versions preset 12V and 5V foldback and power good levels. If the OUT voltage falls (See Datasheet)", 14 IMON (out) "Current Monitor Output. The current in the internal MOSFET switch is divided by 50,000 and sourced from this pin. Placing a 20k resistor from this pin to GND creates a 0V to 2V voltage swing when current ranges from 0A to 5A.", 15 ISET (in) "Current Limit Adjustment Pin. For a 5.6A current limit value open this pin. This pin is driven by a 20k resistor in series with a voltage source. The pin voltage is used to generate the current limit threshold. The internal (See Datasheet)", 16 VDD (power) "Supply Voltage and Current Sense Input. This pin has an undervoltage lockout threshold of 2.73V", 17 EP "Current Sense Node and MOSFET Drain. The current limit circuit controls the GATE pin to limit the sense voltage between the VDD and SENSE pins to 42mV (5.6A) or less depending on the voltage at the FB pin. The exposed pad on (See Datasheet)"

## LTC4219IDHC-12#TRPBF
designator U?
5 A Integrated Hot Swap Controller, 2.9 to 15 V Vin, 16-pin SON (DHC-16), -40 to 85 degC, Pb-Free, Tape and Reel; Manufacturer: Linear Technology; PartNumber: LTC4219IDHC-12#TRPBF; Active Limiting: yes; Circuit Breaker Accuracy(%): 10; Circuit Breaker Threshold: 5.6 A; Circuit Breakers(#): 1; Extended Temp: C, I; Fast Comparator: no; DatasheetVersion: Rev. B; PackageVersion: Jun-10; PackageReference: DHC-16; PackageDescription: 16-Pin Plastic DFN, Body 5 x 3 mm, Pitch 0.5 mm; Supplier 1: Digi-Key; Supplier Part Number 1: LTC4219IDHC-12#TRPBF-ND; Supplier 2: Newark; Supplier Part Number 2: 84R4989; Fault: yes; Foldback: yes; Packing: Tape and Reel; Power Good: yes; Reset: no; RoHS: TRUE; Vin Range: 2.9 to 15 V; Mounting Technology: Surface Mount; Code_JEDEC: MO-229; ComponentLink1Description: Manufacturer URL; ComponentLink1URL: http://www.linear.com/; ComponentLink2Description: Datasheet; ComponentLink2URL: http://cds.linear.com/docs/en/datasheet/4219fb.pdf; ComponentLink3Description: Package Specification; ComponentLink3URL: http://cds.linear.com/docs/en/packaging/DFN_16_05-08-1706.pdf
footprint LT-DHC-16_V (SON, 16-Leads, Body 5x3mm, Pitch 0.5mm, Thermal Pad 4.4X1.65mm)
pins: 1 VDD (power) "Supply Voltage and Current Sense Input. This pin has an undervoltage lockout threshold of 2.73V", 2 ~{EN1} (in) "Inverted Enable 1 Input. Ground this pin to enable the MOSFET to turn on after 100ms debounce delay.", 3 ~{EN2} (in) "Inverted Enable 2 Input. Ground this pin to enable the MOSFET to turn on after 100ms debounce delay.", 4 TIMER (in) "Timer Input. Connect a capacitor between this pin and ground to set a 12ms/uF duration for current limit before the switch is turned off.", 5 INTVCC (power) "Internal 3V Supply Decoupling Output. This pin must have a 0.1uF or larger bypass capacitor.", 6 GND (power) "Device Ground.", 7 OUT (power) "Output of Internal MOSFET Switch. Connect this pin directly to the load. An internal resistive divider is connected to this pin to drive the FB pin.", 8 OUT (power) "Output of Internal MOSFET Switch. Connect this pin directly to the load. An internal resistive divider is connected to this pin to drive the FB pin.", 9 OUT (power) "Output of Internal MOSFET Switch. Connect this pin directly to the load. An internal resistive divider is connected to this pin to drive the FB pin.", 10 GATE (in) "Gate Drive for Internal N-channel MOSFET. An internal 24uA current source charges the gate of the N-channel MOSFET", 11 ~{PG} (oc) "Power Good Indicator. Open-drain output releases the PG pin to go high when the FB pin drops below 1.21V indicating the power is bad. If the FB pin rises above 1.23V and the GATE to OUT voltage exceeds 4.2V, the open-drain (See Datasheet)", 12 ~{FLT} (oc) "Overcurrent Fault Indicator. Open-drain output pulls low when an overcurrent fault has occurred and the circuit breaker trips.", 13 FB (in) "Foldback and Power Good Input. The FB pin is driven from an internal resistive divider from OUT for both the LTC4219-12 and LTC4219-5. These versions preset 12V and 5V foldback and power good levels. If the OUT voltage falls (See Datasheet)", 14 IMON (out) "Current Monitor Output. The current in the internal MOSFET switch is divided by 50,000 and sourced from this pin. Placing a 20k resistor from this pin to GND creates a 0V to 2V voltage swing when current ranges from 0A to 5A.", 15 ISET (in) "Current Limit Adjustment Pin. For a 5.6A current limit value open this pin. This pin is driven by a 20k resistor in series with a voltage source. The pin voltage is used to generate the current limit threshold. The internal (See Datasheet)", 16 VDD (power) "Supply Voltage and Current Sense Input. This pin has an undervoltage lockout threshold of 2.73V", 17 EP "Current Sense Node and MOSFET Drain. The current limit circuit controls the GATE pin to limit the sense voltage between the VDD and SENSE pins to 42mV (5.6A) or less depending on the voltage at the FB pin. The exposed pad on (See Datasheet)"